# Altium schematic symbol library STM32H745ZGT6.SchLib: 2 symbols
Pins are listed as number, name and electrical type; pins without a type are passive.

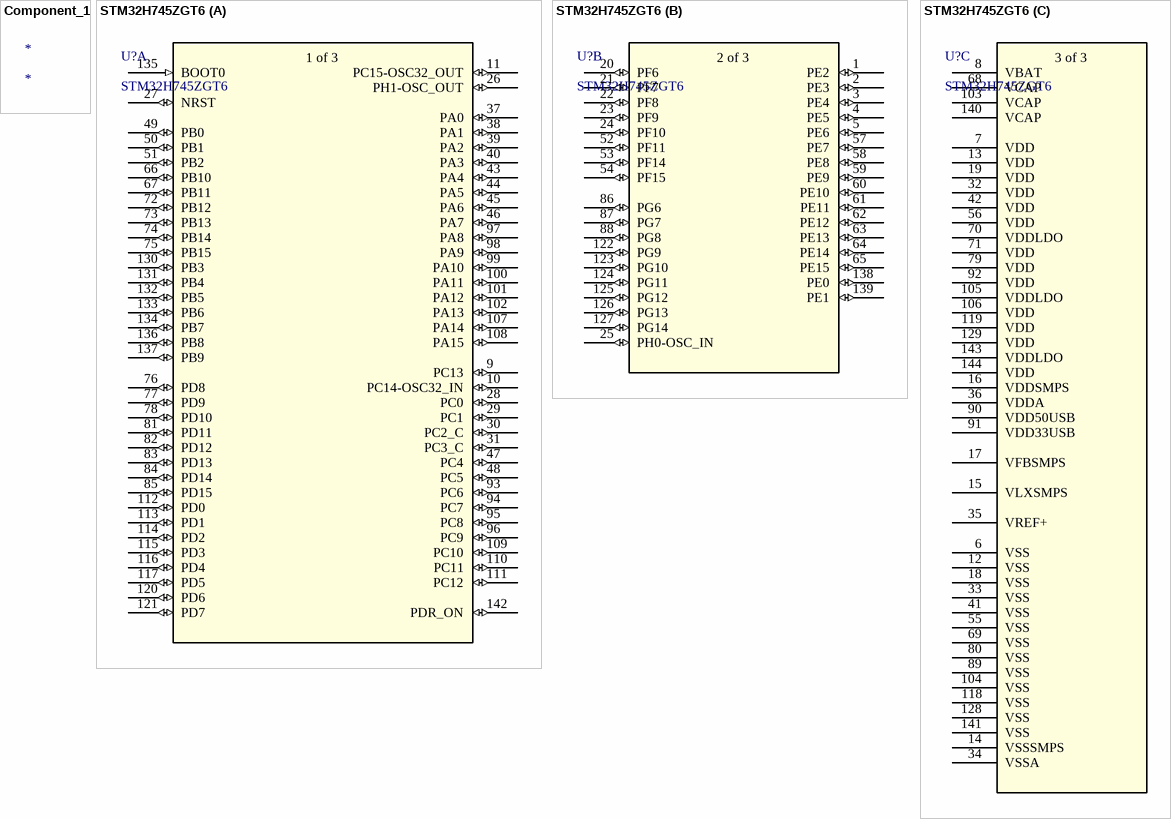
[diagram p0: symbols Component_1 to STM32H745ZGT6]

## Component_1
designator *

## STM32H745ZGT6
designator U?
No Description Available; SourceLibrary: Updates_to_database_2020-10-19; Built_By: EMA_UL_Team; Vendor: STMicroelectronics; Copyright: Copyright (C) 2018 Accelerated Designs. All rights reserved; Manufacturer_Part_Number: STM32H745ZGT6; RefDes: RefDes; Type: DEV
footprint LQFP-144
part A pins: 9 PC13 (io), 10 PC14-OSC32_IN (io), 11 PC15-OSC32_OUT (io), 26 PH1-OSC_OUT (io), 27 NRST (io), 28 PC0 (io), 29 PC1 (io), 30 PC2_C (io), 31 PC3_C (io), 37 PA0 (io), 38 PA1 (io), 39 PA2 (io), 40 PA3 (io), 43 PA4 (io), 44 PA5 (io), 45 PA6 (io), 46 PA7 (io), 47 PC4 (io), 48 PC5 (io), 49 PB0 (io), 50 PB1 (io), 51 PB2 (io), 66 PB10 (io), 67 PB11 (io), 72 PB12 (io), 73 PB13 (io), 74 PB14 (io), 75 PB15 (io), 76 PD8 (io), 77 PD9 (io), 78 PD10 (io), 81 PD11 (io), 82 PD12 (io), 83 PD13 (io), 84 PD14 (io), 85 PD15 (io), 93 PC6 (io), 94 PC7 (io), 95 PC8 (io), 96 PC9 (io), 97 PA8 (io), 98 PA9 (io), 99 PA10 (io), 100 PA11 (io), 101 PA12 (io), 102 PA13 (io), 107 PA14 (io), 108 PA15 (io), 109 PC10 (io), 110 PC11 (io), 111 PC12 (io), 112 PD0 (io), 113 PD1 (io), 114 PD2 (io), 115 PD3 (io), 116 PD4 (io), 117 PD5 (io), 120 PD6 (io), 121 PD7 (io), 130 PB3 (io), 131 PB4 (io), 132 PB5 (io), 133 PB6 (io), 134 PB7 (io), 135 BOOT0 (in), 136 PB8 (io), 137 PB9 (io), 142 PDR_ON (io)
part B pins: 1 PE2 (io), 2 PE3 (io), 3 PE4 (io), 4 PE5 (io), 5 PE6 (io), 20 PF6 (io), 21 PF7 (io), 22 PF8 (io), 23 PF9 (io), 24 PF10 (io), 25 PH0-OSC_IN (io), 52 PF11 (io), 53 PF14 (io), 54 PF15 (io), 57 PE7 (io), 58 PE8 (io), 59 PE9 (io), 60 PE10 (io), 61 PE11 (io), 62 PE12 (io), 63 PE13 (io), 64 PE14 (io), 65 PE15 (io), 86 PG6 (io), 87 PG7 (io), 88 PG8 (io), 122 PG9 (io), 123 PG10 (io), 124 PG11 (io), 125 PG12 (io), 126 PG13 (io), 127 PG14 (io), 138 PE0 (io), 139 PE1 (io)
part C pins: 6 VSS (power), 7 VDD (power), 8 VBAT (power), 12 VSS (power), 13 VDD (power), 14 VSSSMPS (power), 15 VLXSMPS (power), 16 VDDSMPS (power), 17 VFBSMPS (power), 18 VSS (power), 19 VDD (power), 32 VDD (power), 33 VSS (power), 34 VSSA (power), 35 VREF+ (power), 36 VDDA (power), 41 VSS (power), 42 VDD (power), 55 VSS (power), 56 VDD (power), 68 VCAP (power), 69 VSS (power), 70 VDDLDO (power), 71 VDD (power), 79 VDD (power), 80 VSS (power), 89 VSS (power), 90 VDD50USB (power), 91 VDD33USB (power), 92 VDD (power), 103 VCAP (power), 104 VSS (power), 105 VDDLDO (power), 106 VDD (power), 118 VSS (power), 119 VDD (power), 128 VSS (power), 129 VDD (power), 140 VCAP (power), 141 VSS (power), 143 VDDLDO (power), 144 VDD (power)
part A text: 1 of 3
part B text: 2 of 3
part C text: 3 of 3